# EAGLE library part SATA-TH-SWM-V3 (library SATA-TH-SWM-V2)
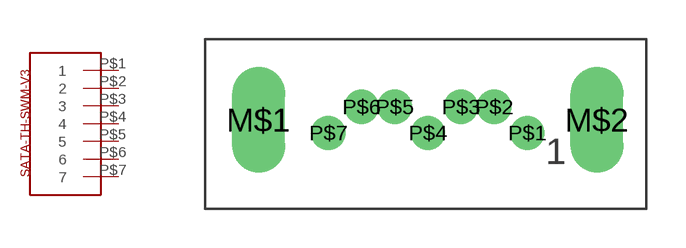
[diagram p1: symbol with the pads of SATA-TH-SWM-V3; footprint SATA-TH-SWM-V3]

Designator prefix -

## SATA-TH-SWM-V3  [SATA-TH-SWM-V3]
P$1  1
P$2  2
P$3  3
P$4  4
P$5  5
P$6  6
P$7  7

## Footprint SATA-TH-SWM-V3 (pad centres in mm)
drill 1.35 long: M$1 -6.48,0; M$2 6.48,0
drill 0.8 pad 1.1 round: P$1 3.81,-0.5; P$2 2.54,0.5; P$3 1.27,0.5; P$4 0,-0.5; P$5 -1.27,0.5; P$6 -2.54,0.5; P$7 -3.81,-0.5